# EAGLE library part TL77XXA (library wolfi)
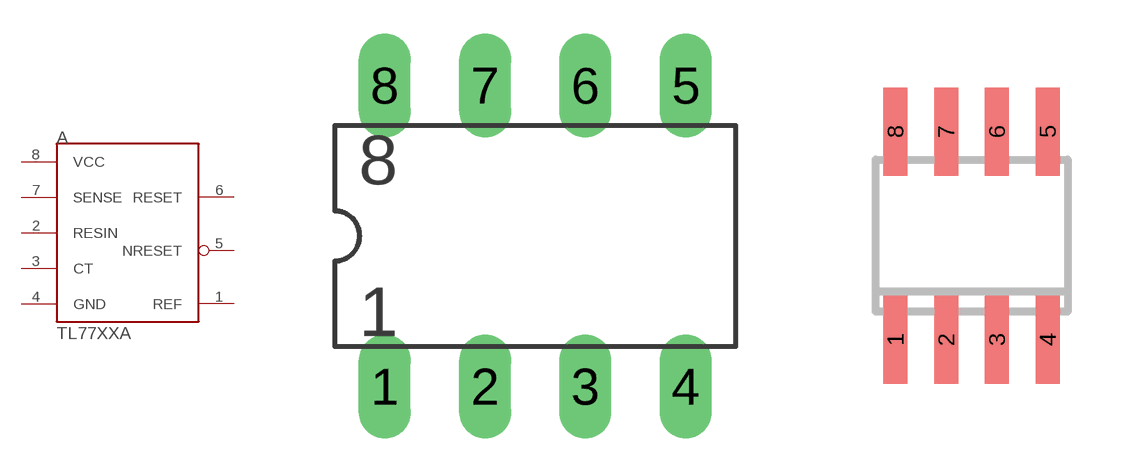
[diagram p13: symbol with the pads of DIL8; footprints DIL8, SO8]

Designator prefix A

## TL77XXAP  [DIL8]
1  REF  out
2  RESIN  in
3  CT  pas
4  GND  pwr
5  NRESET  oc
6  RESET  oc
7  SENSE  pas
8  VCC  pwr

## TL77XXAD  [SO8]
Pads as for DIL8

## Footprint DIL8 (pad centres in mm)
drill 0.813 long: 1 -3.81,-3.81; 2 -1.27,-3.81; 3 1.27,-3.81; 4 3.81,-3.81; 5 3.81,3.81; 6 1.27,3.81; 7 -1.27,3.81; 8 -3.81,3.81

## Footprint SO8 (pad centres in mm)
smd 0.6 x 2.2: 1 -1.905,-2.6; 2 -0.635,-2.6; 3 0.635,-2.6; 4 1.905,-2.6; 5 1.905,2.6; 6 0.635,2.6; 7 -0.635,2.6; 8 -1.905,2.6